# Altium footprint library Component Library.PcbLib: 13 footprints
Each footprint in its own frame and in the unit in brackets; x right, y up, seen from the top. Pads: shape width x height; smd on the part's side, far side on the other; paste and mask are expansions set on the pad; w line width, h text height; cw(c..) or ccw(c..) is an arc to the next point about the centre after c.
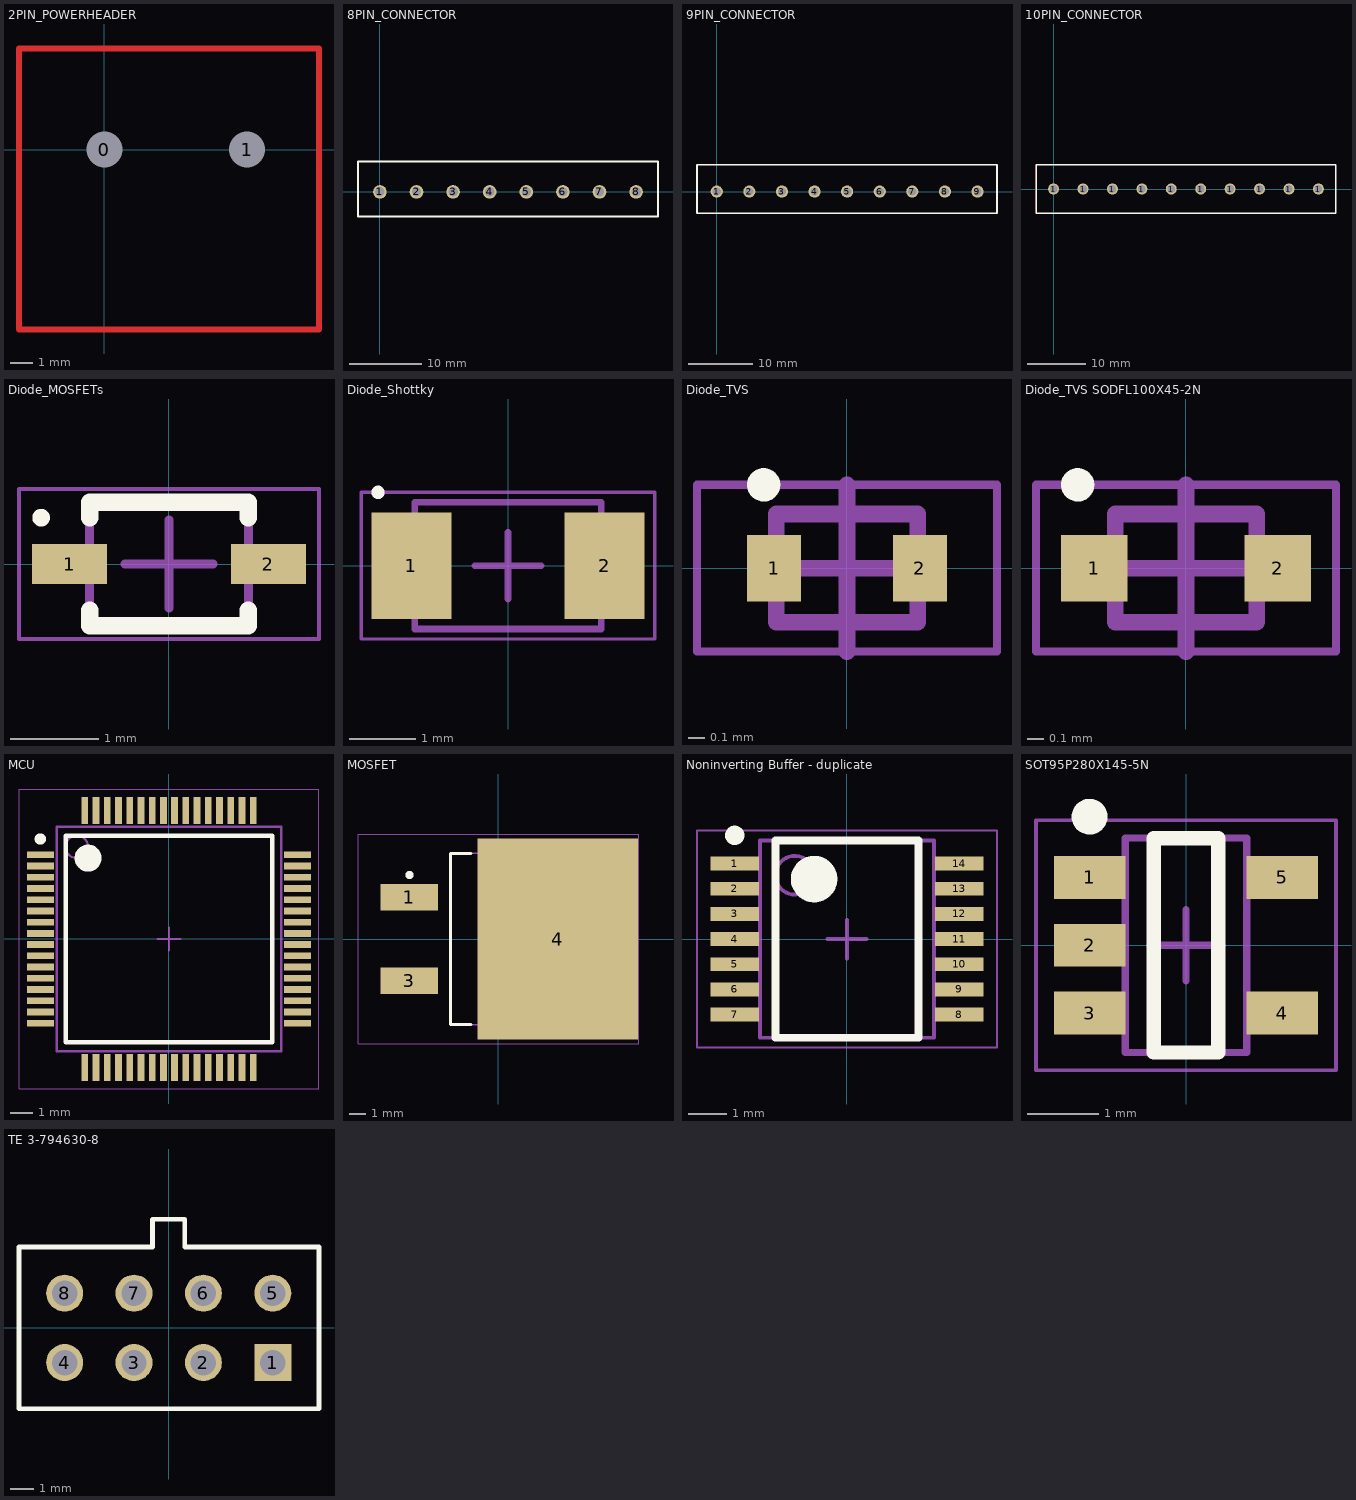
[diagram p0: the footprints below, top view; thin cyan lines are the x and y axes]

## 2PIN_POWERHEADER [mil]
height 846.46
pads (2):
  round 60 hole 62.99: 0(0,0) 1(250,0)
Top Layer:
  lines w10: -149.61,-314.96 -149.61,177.17 375.98,177.17 375.98,-314.96 -149.61,-314.96

## 8PIN_CONNECTOR [mm]
height 10
pads (8):
  round 1.9 hole 1.3: 1(0,0) 2(5.08,0) 3(10.16,0) 4(15.24,0) 5(20.32,0) 6(25.4,0) 7(30.48,0) 8(35.56,0)
Top Overlay:
  lines w0.254: -3.04,-3.4 38.6,-3.4 38.6,4.2 -3.04,4.2 -3.04,-3.4

## 9PIN_CONNECTOR [mm]
height 10
pads (9):
  round 1.9 hole 1.3: 1(0,0) 2(5.08,0) 3(10.16,0) 4(15.24,0) 5(20.32,0) 6(25.4,0) 7(30.48,0) 8(35.56,0) 9(40.64,0)
Top Overlay:
  lines w0.254: -3.08,-3.4 43.68,-3.4 43.68,4.2 -3.08,4.2 -3.08,-3.4

## 10PIN_CONNECTOR [mm]
height 10
pads (10):
  round 1.9 hole 1.3: 1(0,0) 1(5.08,0) 1(10.16,0) 1(15.24,0) 1(20.32,0) 1(25.4,0) 1(30.48,0) 1(35.56,0) 1(40.64,0) 1(45.72,0)
Top Layer:
  lines w0.254: -3.04,-4.2 -3.04,4.2
Top Overlay:
  lines w0.254: -3.04,-4.2 48.76,-4.2 48.76,4.2 -3.04,4.2 -3.04,-4.2

## Diode_MOSFETs [mm] "SODFL, 2-Leads, Body 1.25x2.50mm, IPC Medium Density"
height 1.1
pads (2):
  rect 0.85x0.45 smd: 1(-1.125,0) 2(1.125,0)
Top Overlay:
  circle w0.1: c-1.45,0.525 r0.05
  lines w0.2: -0.9,-0.525 -0.9,-0.7 0.9,-0.7 0.9,-0.525 ; -0.9,0.525 -0.9,0.7 0.9,0.7 0.9,0.525
Mechanical 13:
  lines w0.1: -0.9,-0.675 -0.9,0.675 0.9,0.675 0.9,-0.675 -0.9,-0.675
Mechanical 15:
  lines w0.05: -1.7,-0.85 -1.7,0.85 1.7,0.85 1.7,-0.85 -1.7,-0.85
  lines w0.1: -0.5,0 0.5,0 ; 0,-0.5 0,0.5
3D body: height 1.1, standoff 0, extent -0.9,-0.675 0.9,0.675

## Diode_Shottky [mm] "PMEG6020AELR"
height 1.1
pads (2):
  rect 1.2x1.6 smd: 1(-1.45,0) 2(1.45,0)
Top Overlay:
  circle w0.1: c-1.95,1.1 r0.05
Mechanical 13:
  lines w0.1: -1.4,-0.95 1.4,-0.95 1.4,0.95 -1.4,0.95 -1.4,-0.95
Mechanical 15:
  lines w0.05: -2.2,-1.1 2.2,-1.1 2.2,1.1 -2.2,1.1 -2.2,-1.1
  lines w0.1: -0.5,0 0.5,0 ; 0,-0.5 0,0.5
3D body: height 1.1, standoff 0, extent -1.4,-0.95 1.4,0.95

## Diode_TVS [mm] "DF2S10FS_SOD-923"
height 0.45
pads (2):
  rect 0.325x0.4 smd: 1(-0.437,0) 2(0.437,0)
Top Overlay:
  circle w0.1: c-0.5,0.5 r0.05
Mechanical 13:
  lines w0.1: -0.425,-0.325 -0.425,0.325 0.425,0.325 0.425,-0.325 -0.425,-0.325
Mechanical 15:
  lines w0.05: -0.9,-0.5 -0.9,0.5 0.9,0.5 0.9,-0.5 -0.9,-0.5
  lines w0.1: -0.5,0 0.5,0 ; 0,-0.5 0,0.5
3D body: height 0.45, standoff 0, extent -0.425,-0.325 0.425,0.325

## Diode_TVS SODFL100X45-2N [mm] "SODFL, 2-Leads, Body 0.60x1.00mm, IPC Medium Density"
height 0.45
pads (2):
  rect 0.4x0.4 smd: 1(-0.55,0) 2(0.55,0)
Top Overlay:
  circle w0.1: c-0.65,0.5 r0.05
Mechanical 13:
  lines w0.1: -0.425,-0.325 -0.425,0.325 0.425,0.325 0.425,-0.325 -0.425,-0.325
Mechanical 15:
  lines w0.05: -0.9,-0.5 -0.9,0.5 0.9,0.5 0.9,-0.5 -0.9,-0.5
  lines w0.1: -0.5,0 0.5,0 ; 0,-0.5 0,0.5
3D body: height 0.45, standoff 0, extent -0.425,-0.325 0.425,0.325

## MCU [mm] "TSQFP, 64-Leads, Body 10.00x10.00mm, Pitch 0.50mm, IPC Medium Density"
height 1.6
pads (64):
  rect 1.2x0.3 smd: 1(-5.725,3.75) 2(-5.725,3.25) 3(-5.725,2.75) 4(-5.725,2.25) 5(-5.725,1.75) 6(-5.725,1.25) 7(-5.725,0.75) 8(-5.725,0.25) 9(-5.725,-0.25) 10(-5.725,-0.75) 11(-5.725,-1.25) 12(-5.725,-1.75) 13(-5.725,-2.25) 14(-5.725,-2.75) 15(-5.725,-3.25) 16(-5.725,-3.75) 33(5.725,-3.75) 34(5.725,-3.25) 35(5.725,-2.75) 36(5.725,-2.25) 37(5.725,-1.75) 38(5.725,-1.25) 39(5.725,-0.75) 40(5.725,-0.25) 41(5.725,0.25) 42(5.725,0.75) 43(5.725,1.25) 44(5.725,1.75) 45(5.725,2.25) 46(5.725,2.75) 47(5.725,3.25) 48(5.725,3.75)
  rect 0.3x1.2 smd: 17(-3.75,-5.725) 18(-3.25,-5.725) 19(-2.75,-5.725) 20(-2.25,-5.725) 21(-1.75,-5.725) 22(-1.25,-5.725) 23(-0.75,-5.725) 24(-0.25,-5.725) 25(0.25,-5.725) 26(0.75,-5.725) 27(1.25,-5.725) 28(1.75,-5.725) 29(2.25,-5.725) 30(2.75,-5.725) 31(3.25,-5.725) 32(3.75,-5.725) 49(3.75,5.725) 50(3.25,5.725) 51(2.75,5.725) 52(2.25,5.725) 53(1.75,5.725) 54(1.25,5.725) 55(0.75,5.725) 56(0.25,5.725) 57(-0.25,5.725) 58(-0.75,5.725) 59(-1.25,5.725) 60(-1.75,5.725) 61(-2.25,5.725) 62(-2.75,5.725) 63(-3.25,5.725) 64(-3.75,5.725)
Top Overlay:
  circle w0.6: c-3.6,3.6 r0.3
  circle w0.25: c-5.725,4.45 r0.125
  lines w0.2: -4.6,-4.6 4.6,-4.6 4.6,4.6 -4.6,4.6 -4.6,-4.6
Mechanical 13:
  circle w0.1: c-4.1,4.1 r0.5
  lines w0.1: -5,-5 5,-5 5,5 -5,5 -5,-5
Mechanical 15:
  lines w0.05: -6.675,-6.675 6.675,-6.675 6.675,6.675 -6.675,6.675 -6.675,-6.675
  lines w0.1: -0.5,0 0.5,0 ; 0,-0.5 0,0.5
3D body: height 1.6, standoff 0.15, extent -5,-5 5,5

## MOSFET [mm] "D2-PAK, 3-Pads, Body 7.77x8.56mm (max), IPC Medium Density"
height 4.6
pads (3):
  rect 3.5x1.6 smd: 1(-5.4,2.54) 3(-5.4,-2.54)
  rect 9.75x12.2 smd: 4(3.6,0)
Top Overlay:
  circle w0.25: c-5.4,3.89 r0.125
  lines w0.2: -1.675,-5.2 -2.9,-5.2 -2.9,5.2 -1.675,5.2
Mechanical 13:
  lines w0.1: -2.9,-5.2 6.45,-5.2 6.45,5.2 -2.9,5.2 -2.9,-5.2
Mechanical 15:
  lines w0.05: -8.525,-6.35 8.525,-6.35 8.525,6.35 -8.525,6.35 -8.525,-6.35
  lines w0.1: -0.5,0 0.5,0 ; 0,-0.5 0,0.5
3D body: height 4.6, standoff 0.23, extent -2.9,-5.2 6.45,5.2

## Noninverting Buffer - duplicate [mm] "TSOP, 14-Leads, Body 5.00x4.40mm, Pitch 0.65mm, IPC Medium Density"
height 1.2
pads (14):
  rect 1.26x0.36 smd: 1(-2.9,1.95) 2(-2.9,1.3) 3(-2.9,0.65) 4(-2.9,0) 5(-2.9,-0.65) 6(-2.9,-1.3) 7(-2.9,-1.95) 8(2.9,-1.95) 9(2.9,-1.3) 10(2.9,-0.65) 11(2.9,0) 12(2.9,0.65) 13(2.9,1.3) 14(2.9,1.95)
Top Overlay:
  circle w0.6: c-0.85,1.55 r0.3
  circle w0.25: c-2.9,2.68 r0.125
  lines w0.2: -1.85,-2.55 1.85,-2.55 1.85,2.55 -1.85,2.55 -1.85,-2.55
Mechanical 13:
  circle w0.1: c-1.35,1.65 r0.5
  lines w0.1: -2.25,-2.55 2.25,-2.55 2.25,2.55 -2.25,2.55 -2.25,-2.55
Mechanical 15:
  lines w0.05: -3.875,-2.8 3.875,-2.8 3.875,2.8 -3.875,2.8 -3.875,-2.8
  lines w0.1: -0.5,0 0.5,0 ; 0,-0.5 0,0.5
3D body: height 1.2, standoff 0.05, extent -2.25,-2.55 2.25,2.55

## SOT95P280X145-5N [mm] "SOT23, 5-Leads, Body 2.90x2.80mm, Pitch 0.95mm, IPC Medium Density"
height 1.45
pads (5):
  rect 1x0.6 smd: 1(-1.35,0.95) 2(-1.35,0) 3(-1.35,-0.95) 4(1.35,-0.95) 5(1.35,0.95)
Top Overlay:
  circle w0.25: c-1.35,1.8 r0.125
  lines w0.2: -0.45,-1.5 -0.45,1.5 0.45,1.5 0.45,-1.5 -0.45,-1.5
Mechanical 13:
  lines w0.1: -0.85,-1.5 0.85,-1.5 0.85,1.5 -0.85,1.5 -0.85,-1.5
Mechanical 15:
  lines w0.05: -2.1,-1.75 2.1,-1.75 2.1,1.75 -2.1,1.75 -2.1,-1.75
  lines w0.1: -0.5,0 0.5,0 ; 0,-0.5 0,0.5
3D body: height 1.45, standoff 0.15, extent -0.85,-1.5 0.85,1.5

## TE 3-794630-8 [mm] "Micro MATE-N-LOK 8-Pin Female Connector"
height 9.3
pads (8):
  rect 1.6x1.6 hole 1.1: 1(4.5,-1.5)
  round 1.6 hole 1.1: 2(1.5,-1.5) 3(-1.5,-1.5) 4(-4.5,-1.5) 5(4.5,1.5) 6(1.5,1.5) 7(-1.5,1.5) 8(-4.5,1.5)
Top Overlay:
  lines w0.2: -6.475,-3.5 -6.475,3.5 -0.7,3.5 -0.7,4.7 0.7,4.7 0.7,3.5 6.5,3.5 6.5,-3.5 -6.475,-3.5
3D body: height 9.25, standoff -3.17, extent -8,-3.94 8,4.73